# EAGLE library part PROG_COMM_HEADER (library con-special_purpose)
Combined serial and programming header for Atmel micros Farnell #: 1099563 (25pin header - shorten to fit) 1099546 (socket)
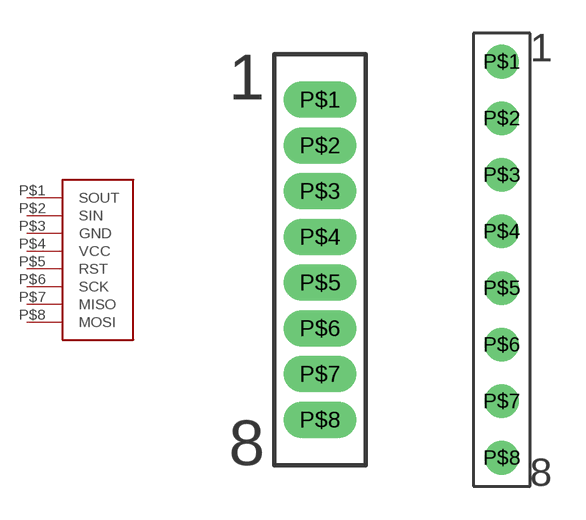
[diagram p2: symbol with the pads of HEADER0.5_8X1; footprints HEADER0.5_8X1, HEADER2.56_8X1]

Designator prefix -

## PROG_COMM_HEADERSMALL  [HEADER0.5_8X1]
P$1  SOUT
P$2  SIN
P$3  GND
P$4  VCC
P$5  RST
P$6  SCK
P$7  MISO
P$8  MOSI

## PROG_COMM_HEADERLARGE  [HEADER2.56_8X1]
Pads as for HEADER0.5_8X1

## Footprint HEADER0.5_8X1 (pad centres in mm)
drill 0.508 pad 0.813 long: P$1 0,0; P$2 0,-1.27; P$3 0,-2.54; P$4 0,-3.81; P$5 0,-5.08; P$6 0,-6.35; P$7 0,-7.62; P$8 0,-8.89

## Footprint HEADER2.56_8X1 (pad centres in mm)
drill 1 round: P$1 0,15.24; P$2 0,12.7; P$3 0,10.16; P$4 0,7.62; P$5 0,5.08; P$6 0,2.54; P$7 0,0; P$8 0,-2.54